# Altium integrated library NSC LDO.IntLib: 1202 symbols (part 1 of 27)
Pins are listed as number, name and electrical type; pins without a type are passive.

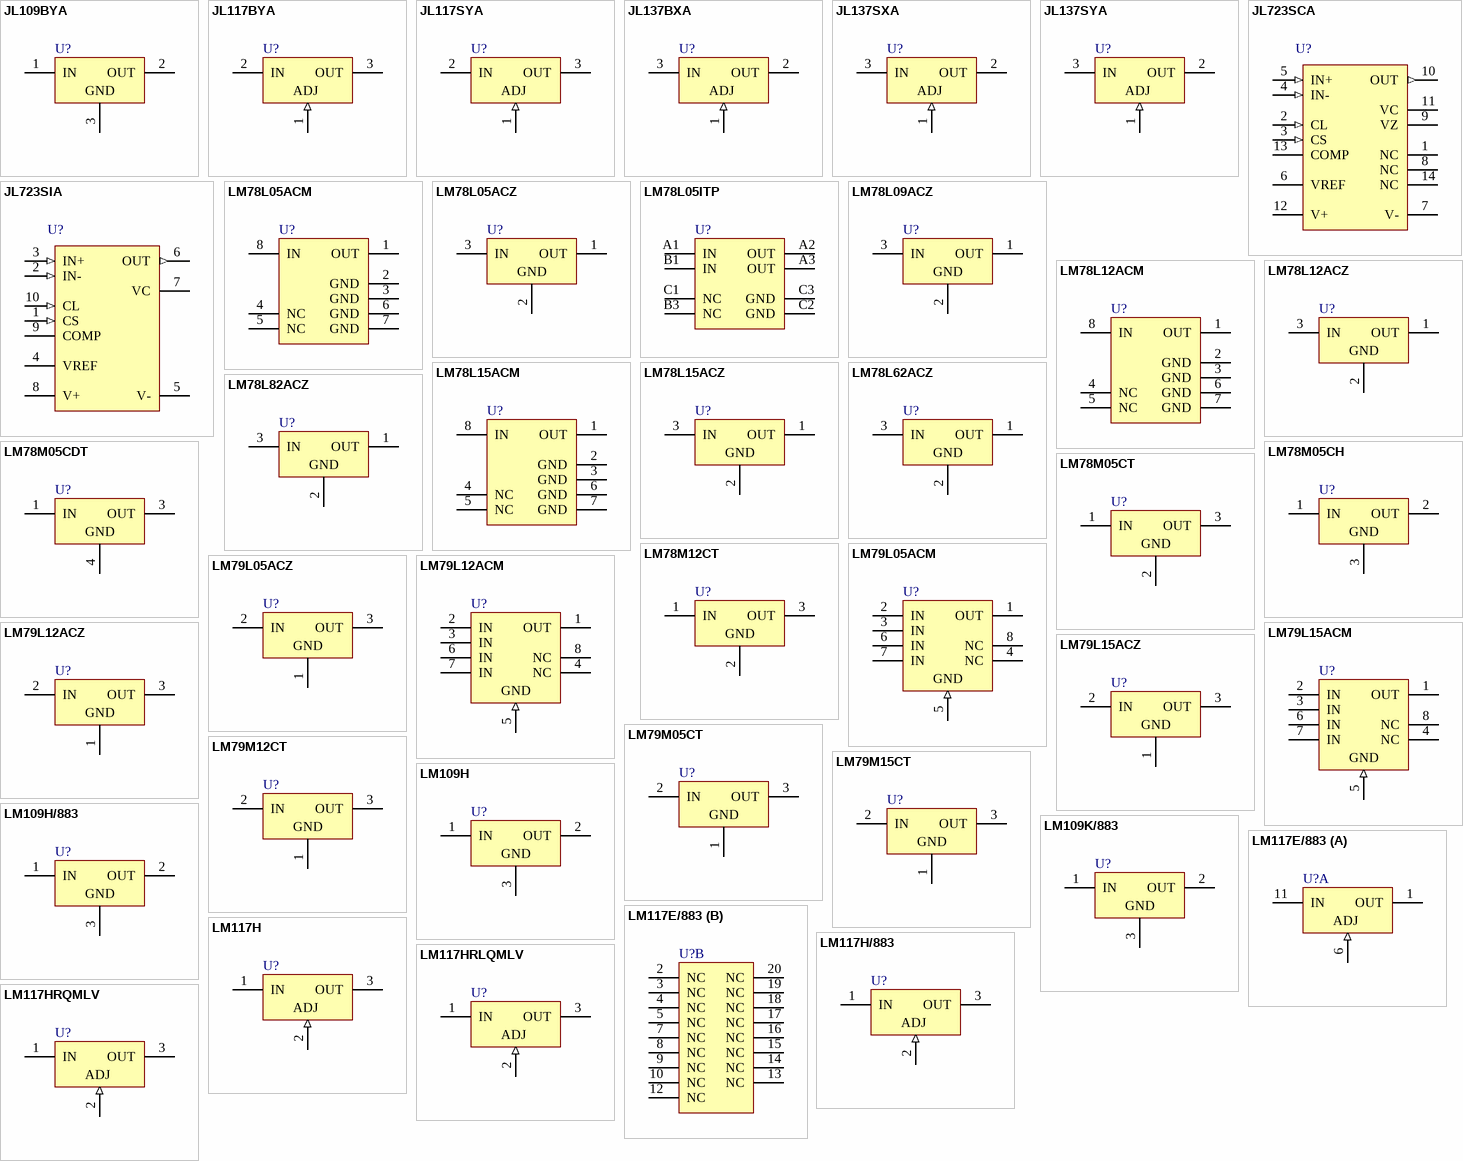
[diagram p0: symbols JL109BYA to LM117HRQMLV]

## JL109BYA
designator U?
5-Volt Regulator; PartNumber: JL109BYA; Manufacturer: National Semiconductor; CompType: LDO IC; PackageTopMarking: NSZSSXXYYA*JM38510/*10701BYA*27014 Q; Published: 4-Dec-2008; DatasheetVersion: Apr-1998; PackageVersion: revE, Sep-1995; PackageReference: K02C; Publisher: Altium Limited; PackageDescription: Metal Can TO-3, 2 Lead, Low Profile; RoHS: N; PinCount: 2; ComponentLink1Description: LM109 Datasheet; ComponentLink1URL: http://www.national.com/ds/LM/LM109.pdf; ComponentLink2Description: LM109 Web Page; ComponentLink2URL: http://www.national.com/pf/LM/LM109.html; ComponentLink3Description: K02C Package Page; ComponentLink3URL: http://www.national.com/packaging/folders/k02c.html
footprint K02C (Oval Flange Mount with (2) Offset Leads; Pin Spacing 10.92 mm; Lead Dia. 1.09 mm (max))
pins: 1 IN (power), 2 OUT (power), 3 GND (power)

## JL117BYA
designator U?
3-Terminal Adjustable Regulator; PartNumber: JL117BYA; Manufacturer: National Semiconductor; CompType: LDO IC; PackageTopMarking: NSZSSXXYYA*JM38510/*11704BYA*27014 Q; Published: 4-Dec-2008; DatasheetVersion: Apr-2007; PackageVersion: revE, Sep-1995; PackageReference: K02C; Publisher: Altium Limited; PackageDescription: Metal Can TO-3, 2 Lead, Low Profile; RoHS: N; PinCount: 2; ComponentLink1Description: LM117 Datasheet; ComponentLink1URL: http://www.national.com/ds/LM/LM117.pdf; ComponentLink2Description: LM117 Web Page; ComponentLink2URL: http://www.national.com/pf/LM/LM117.html; ComponentLink3Description: K02C Package Page; ComponentLink3URL: http://www.national.com/packaging/folders/k02c.html
footprint K02C (Oval Flange Mount with (2) Offset Leads; Pin Spacing 10.92 mm; Lead Dia. 1.09 mm (max))
pins: 1 ADJ (in), 2 IN (power), 3 OUT (power)

## JL117SYA
designator U?
3-Terminal Adjustable Regulator; PartNumber: JL117SYA; Manufacturer: National Semiconductor; CompType: LDO IC; PackageTopMarking: NSZSSXXYYA*JM38510/*11704SYA*27014 Q; Published: 4-Dec-2008; DatasheetVersion: Apr-2007; PackageVersion: revE, Sep-1995; PackageReference: K02C; Publisher: Altium Limited; PackageDescription: Metal Can TO-3, 2 Lead, Low Profile; RoHS: N; PinCount: 2; ComponentLink1Description: LM117 Datasheet; ComponentLink1URL: http://www.national.com/ds/LM/LM117.pdf; ComponentLink2Description: LM117 Web Page; ComponentLink2URL: http://www.national.com/pf/LM/LM117.html; ComponentLink3Description: K02C Package Page; ComponentLink3URL: http://www.national.com/packaging/folders/k02c.html
footprint K02C (Oval Flange Mount with (2) Offset Leads; Pin Spacing 10.92 mm; Lead Dia. 1.09 mm (max))
pins: 1 ADJ (in), 2 IN (power), 3 OUT (power)

## JL137BXA
designator U?
3-Terminal Adjustable Negative Regulator; PartNumber: JL137BXA; Manufacturer: National Semiconductor; CompType: LDO IC; PackageTopMarking: NS ZSSXXYYA 27014 Q*JM38510/11803BXA; Published: 4-Dec-2008; DatasheetVersion: Nov-2004; PackageVersion: revD, Feb-1995; PackageReference: H03A; Publisher: Altium Limited; PackageDescription: Metal Can, TO-39, 3 Lead, .200in Dia, P.C.; RoHS: N; PinCount: 3; Code_JEDEC: TO-39; ComponentLink1Description: LM137 Datasheet; ComponentLink1URL: http://www.national.com/ds/LM/LM137.pdf; ComponentLink2Description: LM137 Web Page; ComponentLink2URL: http://www.national.com/pf/LM/LM137.html; ComponentLink3Description: H03A Package Page; ComponentLink3URL: http://www.national.com/packaging/folders/h03a.html
footprint H03A (Can; 3 Leads; Pin Circle Dia. 5.08 mm; Lead Dia. 0.48 mm (max))
pins: 1 ADJ (in), 2 OUT (power), 3 IN (power)

## JL137SXA
designator U?
3-Terminal Adjustable Negative Regulator; PartNumber: JL137SXA; Manufacturer: National Semiconductor; CompType: LDO IC; PackageTopMarking: NS ZSSXXYYA*JM38510/11803SXA; Published: 4-Dec-2008; DatasheetVersion: Nov-2004; PackageVersion: revD, Feb-1995; PackageReference: H03A; Publisher: Altium Limited; PackageDescription: Metal Can, TO-39, 3 Lead, .200in Dia, P.C.; RoHS: N; PinCount: 3; Code_JEDEC: TO-39; ComponentLink1Description: LM137 Datasheet; ComponentLink1URL: http://www.national.com/ds/LM/LM137.pdf; ComponentLink2Description: LM137 Web Page; ComponentLink2URL: http://www.national.com/pf/LM/LM137.html; ComponentLink3Description: H03A Package Page; ComponentLink3URL: http://www.national.com/packaging/folders/h03a.html
footprint H03A (Can; 3 Leads; Pin Circle Dia. 5.08 mm; Lead Dia. 0.48 mm (max))
pins: 1 ADJ (in), 2 OUT (power), 3 IN (power)

## JL137SYA
designator U?
3-Terminal Adjustable Negative Regulator; PartNumber: JL137SYA; Manufacturer: National Semiconductor; CompType: LDO IC; PackageTopMarking: NSZSSXXYYA*JM38510/*11804SYA*27014 Q; Published: 4-Dec-2008; DatasheetVersion: Nov-2004; PackageVersion: revE, Sep-1995; PackageReference: K02C; Publisher: Altium Limited; PackageDescription: Metal Can TO-3, 2 Lead, Low Profile; RoHS: N; PinCount: 2; ComponentLink1Description: LM137 Datasheet; ComponentLink1URL: http://www.national.com/ds/LM/LM137.pdf; ComponentLink2Description: LM137 Web Page; ComponentLink2URL: http://www.national.com/pf/LM/LM137.html; ComponentLink3Description: K02C Package Page; ComponentLink3URL: http://www.national.com/packaging/folders/k02c.html
footprint K02C (Oval Flange Mount with (2) Offset Leads; Pin Spacing 10.92 mm; Lead Dia. 1.09 mm (max))
pins: 1 ADJ (in), 2 OUT (power), 3 IN (power)

## JL723SCA
designator U?
Voltage Regulator; PartNumber: JL723SCA; Manufacturer: National Semiconductor; CompType: LDO IC; PackageTopMarking: NS ZSSXXYYA*JM38510/10201SCA*27014 Q; MilaeroCode: DXX; Published: 4-Dec-2008; DatasheetVersion: Jun-1999; PackageVersion: revJ, Jul-2002; PackageReference: J14A; Publisher: Altium Limited; PackageDescription: Cerdip, .400 x .310in Body, 14 Lead, .300in Centers, .100in Pitch; RoHS: N; PinCount: 14; ComponentLink1Description: LM723 Datasheet; ComponentLink1URL: http://www.national.com/ds/LM/LM723.pdf; ComponentLink2Description: LM723 Web Page; ComponentLink2URL: http://www.national.com/pf/LM/LM723.html; ComponentLink3Description: J14A Package Page; ComponentLink3URL: http://www.national.com/packaging/folders/j14a.html
footprint J14A (DIP, 14-Leads, Row Spacing 7.62mm, Pitch 2.54mm, Body 19.56x6.73mm)
pins: 1 NC, 2 CL (in), 3 CS (in), 4 IN- (in), 5 IN+ (in), 6 VREF (power), 7 V- (power), 8 NC, 9 VZ (power), 10 OUT (out), 11 VC (power), 12 V+ (power), 13 COMP, 14 NC

## JL723SIA
designator U?
Voltage Regulator; PartNumber: JL723SIA; Manufacturer: National Semiconductor; CompType: LDO IC; PackageTopMarking: NS ZSSXXYYA*JM38510/10201SIA; MilaeroCode: DXX; Published: 4-Dec-2008; DatasheetVersion: Jun-1999; PackageVersion: revG, Nov-2008; PackageReference: H10C; Publisher: Altium Limited; PackageDescription: Metal Can, TO-100, 10 Lead, .230in Dia, P.C.; RoHS: N; PinCount: 10; ComponentLink1Description: LM723 Datasheet; ComponentLink1URL: http://www.national.com/ds/LM/LM723.pdf; ComponentLink2Description: LM723 Web Page; ComponentLink2URL: http://www.national.com/pf/LM/LM723.html; ComponentLink3Description: H10C Package Page; ComponentLink3URL: http://www.national.com/packaging/folders/h10c.html
footprint H10C (Can; 10 Leads; Pin Circle Dia. 5.84 mm; Lead Dia. 0.48 mm (max))
pins: 1 CS (in), 2 IN- (in), 3 IN+ (in), 4 VREF (power), 5 V- (power), 6 OUT (out), 7 VC (power), 8 V+ (power), 9 COMP, 10 CL (in)

## LM78L05ACM
designator U?
3-Terminal Positive Regulators; PartNumber: LM78L05ACM; Manufacturer: National Semiconductor; CompType: LDO IC; PackageTopMarking: NSZXTT*LM78L*05ACM; Published: 4-Dec-2008; DatasheetVersion: Apr-2006; PackageVersion: revL, Sep-2006; PackageReference: M08A; Publisher: Altium Limited; PackageDescription: SOIC Narrow, 4.9 x 3.9 x 1.45mm, 8 Lead, 1.27mm Pitch; RoHS: O; PinCount: 8; DigiKeyPartNumber: LM78L05ACM-ND; Code_JEDEC: MS-012-AA; Code_IPC: SOIC127P600-8; ComponentLink1Description: LM78L05 Datasheet; ComponentLink1URL: http://www.national.com/ds/LM/LM78L05.pdf; ComponentLink2Description: LM78L05 Web Page; ComponentLink2URL: http://www.national.com/pf/LM/LM78L05.html; ComponentLink3Description: M08A Package Page; ComponentLink3URL: http://www.national.com/packaging/folders/m08a.html
footprint M08A_N (SOIC, 8-Leads, Body 4.9x3.9mm, Pitch 1.27mm, IPC Medium Density)
footprint M08A_L (SOIC, 8-Leads, Body 4.9x3.9mm, Pitch 1.27mm, IPC High Density)
footprint M08A_M (SOIC, 8-Leads, Body 4.9x3.9mm, Pitch 1.27mm, IPC Low Density)
pins: 1 OUT (power), 2 GND (power), 3 GND (power), 4 NC, 5 NC, 6 GND (power), 7 GND (power), 8 IN (power)

## LM78L05ACZ
designator U?
3-Terminal Positive Regulators; PartNumber: LM78L05ACZ; Manufacturer: National Semiconductor; CompType: LDO IC; PackageTopMarking: NSXYTT*LM78L*05ACZ; Published: 4-Dec-2008; DatasheetVersion: Apr-2006; PackageVersion: revG, Sep-2000; PackageReference: Z03A; Publisher: Altium Limited; PackageDescription: TO-92, Molded, 3 Lead; RoHS: O; PinCount: 3; DigiKeyPartNumber: LM78L05ACZNS-ND; Code_JEDEC: TO-226-AA; ComponentLink1Description: LM78L05 Datasheet; ComponentLink1URL: http://www.national.com/ds/LM/LM78L05.pdf; ComponentLink2Description: LM78L05 Web Page; ComponentLink2URL: http://www.national.com/pf/LM/LM78L05.html; ComponentLink3Description: Z03A Package Page; ComponentLink3URL: http://www.national.com/packaging/folders/z03a.html
footprint Z03A (TO, Flat Index; 3 In-Line, Axial Leads; Body Dia. 5mm; Leads 0.55 x 0.50 mm (max))
pins: 1 OUT (power), 2 GND (power), 3 IN (power)

## LM78L05ITP
designator U?
3-Terminal Positive Regulators; PartNumber: LM78L05ITP; Manufacturer: National Semiconductor; CompType: LDO IC; PackageTopMarking: XVP*I 03; Published: 4-Dec-2008; DatasheetVersion: Apr-2006; PackageVersion: revA, Mar-2002; PackageReference: TPA08AAA; Publisher: Altium Limited; PackageDescription: Thin Micro SMD, 8 Bump, 0.5mm Pitch; RoHS: Y; PinCount: 8; DigiKeyPartNumber: LM78L05ITPTR-ND; Code_JEDEC: MO-211-BC; ComponentLink1Description: LM78L05 Datasheet; ComponentLink1URL: http://www.national.com/ds/LM/LM78L05.pdf; ComponentLink2Description: LM78L05 Web Page; ComponentLink2URL: http://www.national.com/pf/LM/LM78L05.html; ComponentLink3Description: TPA08AAA Package Page; ComponentLink3URL: http://www.national.com/packaging/folders/tpa08aaa.html
footprint TPA08AAA (Micro SMD, 8-Leads, Body 1.29x1.29mm, Pitch 0.5mm, NSC Recommended)
pins: A1 IN (power), A2 OUT (power), A3 OUT (power), B1 IN (power), B3 NC, C1 NC, C2 GND (power), C3 GND (power)

## LM78L09ACZ
designator U?
3-Terminal Positive Regulators; PartNumber: LM78L09ACZ; Manufacturer: National Semiconductor; CompType: LDO IC; PackageTopMarking: NSXYTT*LM78L*09ACZ; Published: 4-Dec-2008; DatasheetVersion: Apr-2006; PackageVersion: revG, Sep-2000; PackageReference: Z03A; Publisher: Altium Limited; PackageDescription: TO-92, Molded, 3 Lead; RoHS: O; PinCount: 3; DigiKeyPartNumber: LM78L09ACZ-ND; Code_JEDEC: TO-226-AA; ComponentLink1Description: LM78L09 Datasheet; ComponentLink1URL: http://www.national.com/ds/LM/LM78L09.pdf; ComponentLink2Description: LM78L09 Web Page; ComponentLink2URL: http://www.national.com/pf/LM/LM78L09.html; ComponentLink3Description: Z03A Package Page; ComponentLink3URL: http://www.national.com/packaging/folders/z03a.html
footprint Z03A (TO, Flat Index; 3 In-Line, Axial Leads; Body Dia. 5mm; Leads 0.55 x 0.50 mm (max))
pins: 1 OUT (power), 2 GND (power), 3 IN (power)

## LM78L12ACM
designator U?
3-Terminal Positive Regulators; PartNumber: LM78L12ACM; Manufacturer: National Semiconductor; CompType: LDO IC; PackageTopMarking: NSZXTT*LM78L*12ACM; Published: 4-Dec-2008; DatasheetVersion: Apr-2006; PackageVersion: revL, Sep-2006; PackageReference: M08A; Publisher: Altium Limited; PackageDescription: SOIC Narrow, 4.9 x 3.9 x 1.45mm, 8 Lead, 1.27mm Pitch; RoHS: O; PinCount: 8; DigiKeyPartNumber: LM78L12ACM-ND; Code_JEDEC: MS-012-AA; Code_IPC: SOIC127P600-8; ComponentLink1Description: LM78L12 Datasheet; ComponentLink1URL: http://www.national.com/ds/LM/LM78L12.pdf; ComponentLink2Description: LM78L12 Web Page; ComponentLink2URL: http://www.national.com/pf/LM/LM78L12.html; ComponentLink3Description: M08A Package Page; ComponentLink3URL: http://www.national.com/packaging/folders/m08a.html
footprint M08A_N (SOIC, 8-Leads, Body 4.9x3.9mm, Pitch 1.27mm, IPC Medium Density)
footprint M08A_L (SOIC, 8-Leads, Body 4.9x3.9mm, Pitch 1.27mm, IPC High Density)
footprint M08A_M (SOIC, 8-Leads, Body 4.9x3.9mm, Pitch 1.27mm, IPC Low Density)
pins: 1 OUT (power), 2 GND (power), 3 GND (power), 4 NC, 5 NC, 6 GND (power), 7 GND (power), 8 IN (power)

## LM78L12ACZ
designator U?
3-Terminal Positive Regulators; PartNumber: LM78L12ACZ; Manufacturer: National Semiconductor; CompType: LDO IC; PackageTopMarking: NSXYTT*LM78L*12ACZ; Published: 4-Dec-2008; DatasheetVersion: Apr-2006; PackageVersion: revG, Sep-2000; PackageReference: Z03A; Publisher: Altium Limited; PackageDescription: TO-92, Molded, 3 Lead; RoHS: O; PinCount: 3; DigiKeyPartNumber: LM78L12ACZ-ND; Code_JEDEC: TO-226-AA; ComponentLink1Description: LM78L12 Datasheet; ComponentLink1URL: http://www.national.com/ds/LM/LM78L12.pdf; ComponentLink2Description: LM78L12 Web Page; ComponentLink2URL: http://www.national.com/pf/LM/LM78L12.html; ComponentLink3Description: Z03A Package Page; ComponentLink3URL: http://www.national.com/packaging/folders/z03a.html
footprint Z03A (TO, Flat Index; 3 In-Line, Axial Leads; Body Dia. 5mm; Leads 0.55 x 0.50 mm (max))
pins: 1 OUT (power), 2 GND (power), 3 IN (power)

## LM78L15ACM
designator U?
3-Terminal Positive Regulators; PartNumber: LM78L15ACM; Manufacturer: National Semiconductor; CompType: LDO IC; PackageTopMarking: NSZXTT*LM78L*15ACM; Published: 4-Dec-2008; DatasheetVersion: Apr-2006; PackageVersion: revL, Sep-2006; PackageReference: M08A; Publisher: Altium Limited; PackageDescription: SOIC Narrow, 4.9 x 3.9 x 1.45mm, 8 Lead, 1.27mm Pitch; RoHS: O; PinCount: 8; DigiKeyPartNumber: LM78L15ACM-ND; Code_JEDEC: MS-012-AA; Code_IPC: SOIC127P600-8; ComponentLink1Description: LM78L15 Datasheet; ComponentLink1URL: http://www.national.com/ds/LM/LM78L15.pdf; ComponentLink2Description: LM78L15 Web Page; ComponentLink2URL: http://www.national.com/pf/LM/LM78L15.html; ComponentLink3Description: M08A Package Page; ComponentLink3URL: http://www.national.com/packaging/folders/m08a.html
footprint M08A_N (SOIC, 8-Leads, Body 4.9x3.9mm, Pitch 1.27mm, IPC Medium Density)
footprint M08A_L (SOIC, 8-Leads, Body 4.9x3.9mm, Pitch 1.27mm, IPC High Density)
footprint M08A_M (SOIC, 8-Leads, Body 4.9x3.9mm, Pitch 1.27mm, IPC Low Density)
pins: 1 OUT (power), 2 GND (power), 3 GND (power), 4 NC, 5 NC, 6 GND (power), 7 GND (power), 8 IN (power)

## LM78L15ACZ
designator U?
3-Terminal Positive Regulators; PartNumber: LM78L15ACZ; Manufacturer: National Semiconductor; CompType: LDO IC; PackageTopMarking: NSXYTT*LM78L*15ACZ; Published: 4-Dec-2008; DatasheetVersion: Apr-2006; PackageVersion: revG, Sep-2000; PackageReference: Z03A; Publisher: Altium Limited; PackageDescription: TO-92, Molded, 3 Lead; RoHS: O; PinCount: 3; DigiKeyPartNumber: LM78L15ACZ-ND; Code_JEDEC: TO-226-AA; ComponentLink1Description: LM78L15 Datasheet; ComponentLink1URL: http://www.national.com/ds/LM/LM78L15.pdf; ComponentLink2Description: LM78L15 Web Page; ComponentLink2URL: http://www.national.com/pf/LM/LM78L15.html; ComponentLink3Description: Z03A Package Page; ComponentLink3URL: http://www.national.com/packaging/folders/z03a.html
footprint Z03A (TO, Flat Index; 3 In-Line, Axial Leads; Body Dia. 5mm; Leads 0.55 x 0.50 mm (max))
pins: 1 OUT (power), 2 GND (power), 3 IN (power)

## LM78L62ACZ
designator U?
3-Terminal Positive Regulators; PartNumber: LM78L62ACZ; Manufacturer: National Semiconductor; CompType: LDO IC; PackageTopMarking: NSXYTT*LM78L*62ACZ; Published: 4-Dec-2008; DatasheetVersion: Apr-2006; PackageVersion: revG, Sep-2000; PackageReference: Z03A; Publisher: Altium Limited; PackageDescription: TO-92, Molded, 3 Lead; RoHS: O; PinCount: 3; DigiKeyPartNumber: LM78L62ACZ-ND; Code_JEDEC: TO-226-AA; ComponentLink1Description: LM78L62 Datasheet; ComponentLink1URL: http://www.national.com/ds/LM/LM78L62.pdf; ComponentLink2Description: LM78L62 Web Page; ComponentLink2URL: http://www.national.com/pf/LM/LM78L62.html; ComponentLink3Description: Z03A Package Page; ComponentLink3URL: http://www.national.com/packaging/folders/z03a.html
footprint Z03A (TO, Flat Index; 3 In-Line, Axial Leads; Body Dia. 5mm; Leads 0.55 x 0.50 mm (max))
pins: 1 OUT (power), 2 GND (power), 3 IN (power)

## LM78L82ACZ
designator U?
3-Terminal Positive Regulators; PartNumber: LM78L82ACZ; Manufacturer: National Semiconductor; CompType: LDO IC; PackageTopMarking: NSXYTT*LM78L*82ACZ; Published: 4-Dec-2008; DatasheetVersion: Apr-2006; PackageVersion: revG, Sep-2000; PackageReference: Z03A; Publisher: Altium Limited; PackageDescription: TO-92, Molded, 3 Lead; RoHS: O; PinCount: 3; DigiKeyPartNumber: LM78L82ACZ-ND; Code_JEDEC: TO-226-AA; ComponentLink1Description: LM78L82 Datasheet; ComponentLink1URL: http://www.national.com/ds/LM/LM78L82.pdf; ComponentLink2Description: LM78L82 Web Page; ComponentLink2URL: http://www.national.com/pf/LM/LM78L82.html; ComponentLink3Description: Z03A Package Page; ComponentLink3URL: http://www.national.com/packaging/folders/z03a.html
footprint Z03A (TO, Flat Index; 3 In-Line, Axial Leads; Body Dia. 5mm; Leads 0.55 x 0.50 mm (max))
pins: 1 OUT (power), 2 GND (power), 3 IN (power)

## LM78M05CDT
designator U?
3-Terminal Positive Voltage Regulators; PartNumber: LM78M05CDT; Manufacturer: National Semiconductor; CompType: LDO IC; PackageTopMarking: NSUZXYTT*LM78M05*CDT; Published: 4-Dec-2008; DatasheetVersion: Aug-2005; PackageVersion: revC, Apr-2003; PackageReference: TD03B; Publisher: Altium Limited; PackageDescription: TO252, Molded, Jedec, 6.8 x 6.10 x 2.30mm Body, 3 Lead, 2.28mm Pitch, Surface Mount; RoHS: O; PinCount: 3; DigiKeyPartNumber: LM78M05CDT-ND; Code_JEDEC: TO-252-AA; ComponentLink1Description: LM78M05 Datasheet; ComponentLink1URL: http://www.national.com/ds/LM/LM78M05.pdf; ComponentLink2Description: LM78M05 Web Page; ComponentLink2URL: http://www.national.com/pf/LM/LM78M05.html; ComponentLink3Description: TD03B Package Page; ComponentLink3URL: http://www.national.com/packaging/folders/td03b.html
footprint TD03B_N (D-PAK, 4-Leads, Body 6.1x6.6mm, Pitch 2.29mm, Lead Span 9.7mm, IPC Medium Density)
footprint TD03B_L (D-PAK, 4-Leads, Body 6.1x6.6mm, Pitch 2.29mm, Lead Span 9.7mm, IPC High Density)
footprint TD03B_M (D-PAK, 4-Leads, Body 6.1x6.6mm, Pitch 2.29mm, Lead Span 9.7mm, IPC Low Density)
pins: 1 IN (power), 3 OUT (power), 4 GND (power)

## LM78M05CH
designator U?
3-Terminal Positive Voltage Regulators; PartNumber: LM78M05CH; Manufacturer: National Semiconductor; CompType: LDO IC; PackageTopMarking: NSZXYTTE# LM78M05CH; Published: 4-Dec-2008; DatasheetVersion: Aug-2005; PackageVersion: revD, Feb-1995; PackageReference: H03A; Publisher: Altium Limited; PackageDescription: Metal Can, TO-39, 3 Lead, .200in Dia, P.C.; RoHS: O; PinCount: 3; Code_JEDEC: TO-39; ComponentLink1Description: LM78M05 Datasheet; ComponentLink1URL: http://www.national.com/ds/LM/LM78M05.pdf; ComponentLink2Description: LM78M05 Web Page; ComponentLink2URL: http://www.national.com/pf/LM/LM78M05.html; ComponentLink3Description: H03A Package Page; ComponentLink3URL: http://www.national.com/packaging/folders/h03a.html
footprint H03A (Can; 3 Leads; Pin Circle Dia. 5.08 mm; Lead Dia. 0.48 mm (max))
pins: 1 IN (power), 2 OUT (power), 3 GND (power)

## LM78M05CT
designator U?
3-Terminal Positive Voltage Regulators; PartNumber: LM78M05CT; Manufacturer: National Semiconductor; CompType: LDO IC; PackageTopMarking: NSUZXYTTE#*LM341T-5.0*LM78M05CT; Published: 4-Dec-2008; DatasheetVersion: Aug-2005; PackageVersion: revL, Jan-1992; PackageReference: T03B; Publisher: Altium Limited; PackageDescription: TO-220, Molded, 3 Lead, Straight; RoHS: O; PinCount: 3; DigiKeyPartNumber: LM78M05CT-ND; ComponentLink1Description: LM78M05 Datasheet; ComponentLink1URL: http://www.national.com/ds/LM/LM78M05.pdf; ComponentLink2Description: LM78M05 Web Page; ComponentLink2URL: http://www.national.com/pf/LM/LM78M05.html; ComponentLink3Description: T03B Package Page; ComponentLink3URL: http://www.national.com/packaging/folders/t03b.html
footprint T03B (TO, Thru-Hole, Vertical, Heatsink Mounted; 3 In-Line Leads; Pitch 2.54 mm)
pins: 1 IN (power), 2 GND (power), 3 OUT (power)

## LM78M12CT
designator U?
3-Terminal Positive Voltage Regulators; PartNumber: LM78M12CT; Manufacturer: National Semiconductor; CompType: LDO IC; PackageTopMarking: NSUZXYTTE#*LM341T-12*LM78M12CT; Published: 4-Dec-2008; DatasheetVersion: Aug-2005; PackageVersion: revL, Jan-1992; PackageReference: T03B; Publisher: Altium Limited; PackageDescription: TO-220, Molded, 3 Lead, Straight; RoHS: O; PinCount: 3; DigiKeyPartNumber: LM78M12CT-ND; ComponentLink1Description: LM78M12 Datasheet; ComponentLink1URL: http://www.national.com/ds/LM/LM78M12.pdf; ComponentLink2Description: LM78M12 Web Page; ComponentLink2URL: http://www.national.com/pf/LM/LM78M12.html; ComponentLink3Description: T03B Package Page; ComponentLink3URL: http://www.national.com/packaging/folders/t03b.html
footprint T03B (TO, Thru-Hole, Vertical, Heatsink Mounted; 3 In-Line Leads; Pitch 2.54 mm)
pins: 1 IN (power), 2 GND (power), 3 OUT (power)

## LM79L05ACM
designator U?
Series 3-Terminal Negative Regulators; PartNumber: LM79L05ACM; Manufacturer: National Semiconductor; CompType: LDO IC; PackageTopMarking: NSZXTT*LM79L*05ACM; Published: 4-Dec-2008; DatasheetVersion: Mar-2006; PackageVersion: revL, Sep-2006; PackageReference: M08A; Publisher: Altium Limited; PackageDescription: SOIC Narrow, 4.9 x 3.9 x 1.45mm, 8 Lead, 1.27mm Pitch; RoHS: O; PinCount: 8; DigiKeyPartNumber: LM79L05ACM-ND; Code_JEDEC: MS-012-AA; Code_IPC: SOIC127P600-8; ComponentLink1Description: LM79L05 Datasheet; ComponentLink1URL: http://www.national.com/ds/LM/LM79L05.pdf; ComponentLink2Description: LM79L05 Web Page; ComponentLink2URL: http://www.national.com/pf/LM/LM79L05.html; ComponentLink3Description: M08A Package Page; ComponentLink3URL: http://www.national.com/packaging/folders/m08a.html
footprint M08A_N (SOIC, 8-Leads, Body 4.9x3.9mm, Pitch 1.27mm, IPC Medium Density)
footprint M08A_L (SOIC, 8-Leads, Body 4.9x3.9mm, Pitch 1.27mm, IPC High Density)
footprint M08A_M (SOIC, 8-Leads, Body 4.9x3.9mm, Pitch 1.27mm, IPC Low Density)
pins: 1 OUT (power), 2 IN (power), 3 IN (power), 4 NC, 5 GND (in), 6 IN (power), 7 IN (power), 8 NC

## LM79L05ACZ
designator U?
Series 3-Terminal Negative Regulators; PartNumber: LM79L05ACZ; Manufacturer: National Semiconductor; CompType: LDO IC; PackageTopMarking: NSXYTT*320L*79L05; Published: 4-Dec-2008; DatasheetVersion: Mar-2006; PackageVersion: revG, Sep-2000; PackageReference: Z03A; Publisher: Altium Limited; PackageDescription: TO-92, Molded, 3 Lead; RoHS: O; PinCount: 3; DigiKeyPartNumber: LM79L05ACZ-ND; Code_JEDEC: TO-226-AA; ComponentLink1Description: LM79L05 Datasheet; ComponentLink1URL: http://www.national.com/ds/LM/LM79L05.pdf; ComponentLink2Description: LM79L05 Web Page; ComponentLink2URL: http://www.national.com/pf/LM/LM79L05.html; ComponentLink3Description: Z03A Package Page; ComponentLink3URL: http://www.national.com/packaging/folders/z03a.html
footprint Z03A (TO, Flat Index; 3 In-Line, Axial Leads; Body Dia. 5mm; Leads 0.55 x 0.50 mm (max))
pins: 1 GND (power), 2 IN (power), 3 OUT (power)

## LM79L12ACM
designator U?
Series 3-Terminal Negative Regulators; PartNumber: LM79L12ACM; Manufacturer: National Semiconductor; CompType: LDO IC; PackageTopMarking: NSZXTT*LM79L*12ACM; Published: 4-Dec-2008; DatasheetVersion: Mar-2006; PackageVersion: revL, Sep-2006; PackageReference: M08A; Publisher: Altium Limited; PackageDescription: SOIC Narrow, 4.9 x 3.9 x 1.45mm, 8 Lead, 1.27mm Pitch; RoHS: O; PinCount: 8; DigiKeyPartNumber: LM79L12ACM-ND; Code_JEDEC: MS-012-AA; Code_IPC: SOIC127P600-8; ComponentLink1Description: LM79L12 Datasheet; ComponentLink1URL: http://www.national.com/ds/LM/LM79L12.pdf; ComponentLink2Description: LM79L12 Web Page; ComponentLink2URL: http://www.national.com/pf/LM/LM79L12.html; ComponentLink3Description: M08A Package Page; ComponentLink3URL: http://www.national.com/packaging/folders/m08a.html
footprint M08A_N (SOIC, 8-Leads, Body 4.9x3.9mm, Pitch 1.27mm, IPC Medium Density)
footprint M08A_L (SOIC, 8-Leads, Body 4.9x3.9mm, Pitch 1.27mm, IPC High Density)
footprint M08A_M (SOIC, 8-Leads, Body 4.9x3.9mm, Pitch 1.27mm, IPC Low Density)
pins: 1 OUT (power), 2 IN (power), 3 IN (power), 4 NC, 5 GND (in), 6 IN (power), 7 IN (power), 8 NC

## LM79L12ACZ
designator U?
Series 3-Terminal Negative Regulators; PartNumber: LM79L12ACZ; Manufacturer: National Semiconductor; CompType: LDO IC; PackageTopMarking: NSXYTT*320L*79L12; Published: 4-Dec-2008; DatasheetVersion: Mar-2006; PackageVersion: revG, Sep-2000; PackageReference: Z03A; Publisher: Altium Limited; PackageDescription: TO-92, Molded, 3 Lead; RoHS: O; PinCount: 3; DigiKeyPartNumber: LM320LZ-12-ND; Code_JEDEC: TO-226-AA; ComponentLink1Description: LM79L12 Datasheet; ComponentLink1URL: http://www.national.com/ds/LM/LM79L12.pdf; ComponentLink2Description: LM79L12 Web Page; ComponentLink2URL: http://www.national.com/pf/LM/LM79L12.html; ComponentLink3Description: Z03A Package Page; ComponentLink3URL: http://www.national.com/packaging/folders/z03a.html
footprint Z03A (TO, Flat Index; 3 In-Line, Axial Leads; Body Dia. 5mm; Leads 0.55 x 0.50 mm (max))
pins: 1 GND (power), 2 IN (power), 3 OUT (power)

## LM79L15ACM
designator U?
Series 3-Terminal Negative Regulators; PartNumber: LM79L15ACM; Manufacturer: National Semiconductor; CompType: LDO IC; PackageTopMarking: NSZXTT*LM79L*15ACM; Published: 4-Dec-2008; DatasheetVersion: Mar-2006; PackageVersion: revL, Sep-2006; PackageReference: M08A; Publisher: Altium Limited; PackageDescription: SOIC Narrow, 4.9 x 3.9 x 1.45mm, 8 Lead, 1.27mm Pitch; RoHS: O; PinCount: 8; DigiKeyPartNumber: LM79L15ACM-ND; Code_JEDEC: MS-012-AA; Code_IPC: SOIC127P600-8; ComponentLink1Description: LM79L15 Datasheet; ComponentLink1URL: http://www.national.com/ds/LM/LM79L15.pdf; ComponentLink2Description: LM79L15 Web Page; ComponentLink2URL: http://www.national.com/pf/LM/LM79L15.html; ComponentLink3Description: M08A Package Page; ComponentLink3URL: http://www.national.com/packaging/folders/m08a.html
footprint M08A_N (SOIC, 8-Leads, Body 4.9x3.9mm, Pitch 1.27mm, IPC Medium Density)
footprint M08A_L (SOIC, 8-Leads, Body 4.9x3.9mm, Pitch 1.27mm, IPC High Density)
footprint M08A_M (SOIC, 8-Leads, Body 4.9x3.9mm, Pitch 1.27mm, IPC Low Density)
pins: 1 OUT (power), 2 IN (power), 3 IN (power), 4 NC, 5 GND (in), 6 IN (power), 7 IN (power), 8 NC

## LM79L15ACZ
designator U?
Series 3-Terminal Negative Regulators; PartNumber: LM79L15ACZ; Manufacturer: National Semiconductor; CompType: LDO IC; PackageTopMarking: NSXYTT*320L*79L15; Published: 4-Dec-2008; DatasheetVersion: Mar-2006; PackageVersion: revG, Sep-2000; PackageReference: Z03A; Publisher: Altium Limited; PackageDescription: TO-92, Molded, 3 Lead; RoHS: O; PinCount: 3; DigiKeyPartNumber: LM79L15ACZ-ND; Code_JEDEC: TO-226-AA; ComponentLink1Description: LM79L15 Datasheet; ComponentLink1URL: http://www.national.com/ds/LM/LM79L15.pdf; ComponentLink2Description: LM79L15 Web Page; ComponentLink2URL: http://www.national.com/pf/LM/LM79L15.html; ComponentLink3Description: Z03A Package Page; ComponentLink3URL: http://www.national.com/packaging/folders/z03a.html
footprint Z03A (TO, Flat Index; 3 In-Line, Axial Leads; Body Dia. 5mm; Leads 0.55 x 0.50 mm (max))
pins: 1 GND (power), 2 IN (power), 3 OUT (power)

## LM79M05CT
designator U?
3-Terminal Negative Regulators; PartNumber: LM79M05CT; Manufacturer: National Semiconductor; CompType: LDO IC; PackageTopMarking: NSUZXYTTE#*LM79M*05CT; Published: 4-Dec-2008; DatasheetVersion: Sep-2001; PackageVersion: revL, Jan-1992; PackageReference: T03B; Publisher: Altium Limited; PackageDescription: TO-220, Molded, 3 Lead, Straight; RoHS: O; PinCount: 3; DigiKeyPartNumber: LM79M05CT-ND; ComponentLink1Description: LM79M05 Datasheet; ComponentLink1URL: http://www.national.com/ds/LM/LM79M05.pdf; ComponentLink2Description: LM79M05 Web Page; ComponentLink2URL: http://www.national.com/pf/LM/LM79M05.html; ComponentLink3Description: T03B Package Page; ComponentLink3URL: http://www.national.com/packaging/folders/t03b.html
footprint T03B (TO, Thru-Hole, Vertical, Heatsink Mounted; 3 In-Line Leads; Pitch 2.54 mm)
pins: 1 GND (power), 2 IN (power), 3 OUT (power)

## LM79M12CT
designator U?
3-Terminal Negative Regulators; PartNumber: LM79M12CT; Manufacturer: National Semiconductor; CompType: LDO IC; PackageTopMarking: NSUZXYTTE#*LM79M*12CT; Published: 4-Dec-2008; DatasheetVersion: Sep-2001; PackageVersion: revL, Jan-1992; PackageReference: T03B; Publisher: Altium Limited; PackageDescription: TO-220, Molded, 3 Lead, Straight; RoHS: O; PinCount: 3; DigiKeyPartNumber: LM79M12CT-ND; ComponentLink1Description: LM79M12 Datasheet; ComponentLink1URL: http://www.national.com/ds/LM/LM79M12.pdf; ComponentLink2Description: LM79M12 Web Page; ComponentLink2URL: http://www.national.com/pf/LM/LM79M12.html; ComponentLink3Description: T03B Package Page; ComponentLink3URL: http://www.national.com/packaging/folders/t03b.html
footprint T03B (TO, Thru-Hole, Vertical, Heatsink Mounted; 3 In-Line Leads; Pitch 2.54 mm)
pins: 1 GND (power), 2 IN (power), 3 OUT (power)

## LM79M15CT
designator U?
3-Terminal Negative Regulators; PartNumber: LM79M15CT; Manufacturer: National Semiconductor; CompType: LDO IC; PackageTopMarking: NSUZXYTTE#*LM79M*15CT; Published: 4-Dec-2008; DatasheetVersion: Sep-2001; PackageVersion: revL, Jan-1992; PackageReference: T03B; Publisher: Altium Limited; PackageDescription: TO-220, Molded, 3 Lead, Straight; RoHS: O; PinCount: 3; DigiKeyPartNumber: LM79M15CT-ND; ComponentLink1Description: LM79M15 Datasheet; ComponentLink1URL: http://www.national.com/ds/LM/LM79M15.pdf; ComponentLink2Description: LM79M15 Web Page; ComponentLink2URL: http://www.national.com/pf/LM/LM79M15.html; ComponentLink3Description: T03B Package Page; ComponentLink3URL: http://www.national.com/packaging/folders/t03b.html
footprint T03B (TO, Thru-Hole, Vertical, Heatsink Mounted; 3 In-Line Leads; Pitch 2.54 mm)
pins: 1 GND (power), 2 IN (power), 3 OUT (power)

## LM109H
designator U?
5-Volt Regulator; PartNumber: LM109H; Manufacturer: National Semiconductor; CompType: LDO IC; PackageTopMarking: NSZXYTTE# LM109HP+; Published: 4-Dec-2008; DatasheetVersion: Apr-1998; PackageVersion: revD, Feb-1995; PackageReference: H03A; Publisher: Altium Limited; PackageDescription: Metal Can, TO-39, 3 Lead, .200in Dia, P.C.; RoHS: O; PinCount: 3; Code_JEDEC: TO-39; ComponentLink1Description: LM109 Datasheet; ComponentLink1URL: http://www.national.com/ds/LM/LM109.pdf; ComponentLink2Description: LM109 Web Page; ComponentLink2URL: http://www.national.com/pf/LM/LM109.html; ComponentLink3Description: H03A Package Page; ComponentLink3URL: http://www.national.com/packaging/folders/h03a.html
footprint H03A (Can; 3 Leads; Pin Circle Dia. 5.08 mm; Lead Dia. 0.48 mm (max))
pins: 1 IN (power), 2 OUT (power), 3 GND (power)

## LM109H/883
designator U?
5-Volt Regulator; PartNumber: LM109H/883; Manufacturer: National Semiconductor; CompType: LDO IC; PackageTopMarking: NS ZSSXXYYA*LM109H/883 Q; Published: 4-Dec-2008; DatasheetVersion: Apr-1998; PackageVersion: revD, Feb-1995; PackageReference: H03A; Publisher: Altium Limited; PackageDescription: Metal Can, TO-39, 3 Lead, .200in Dia, P.C.; RoHS: N; PinCount: 3; Code_JEDEC: TO-39; ComponentLink1Description: LM109 Datasheet; ComponentLink1URL: http://www.national.com/ds/LM/LM109.pdf; ComponentLink2Description: LM109 Web Page; ComponentLink2URL: http://www.national.com/pf/LM/LM109.html; ComponentLink3Description: H03A Package Page; ComponentLink3URL: http://www.national.com/packaging/folders/h03a.html
footprint H03A (Can; 3 Leads; Pin Circle Dia. 5.08 mm; Lead Dia. 0.48 mm (max))
pins: 1 IN (power), 2 OUT (power), 3 GND (power)

## LM109K/883
designator U?
5-Volt Regulator; PartNumber: LM109K/883; Manufacturer: National Semiconductor; CompType: LDO IC; PackageTopMarking: NSZSSXXYYA*LM109K/883* Q; Published: 4-Dec-2008; DatasheetVersion: Apr-1998; PackageVersion: revE, Sep-1995; PackageReference: K02C; Publisher: Altium Limited; PackageDescription: Metal Can TO-3, 2 Lead, Low Profile; RoHS: N; PinCount: 2; ComponentLink1Description: LM109 Datasheet; ComponentLink1URL: http://www.national.com/ds/LM/LM109.pdf; ComponentLink2Description: LM109 Web Page; ComponentLink2URL: http://www.national.com/pf/LM/LM109.html; ComponentLink3Description: K02C Package Page; ComponentLink3URL: http://www.national.com/packaging/folders/k02c.html
footprint K02C (Oval Flange Mount with (2) Offset Leads; Pin Spacing 10.92 mm; Lead Dia. 1.09 mm (max))
pins: 1 IN (power), 2 OUT (power), 3 GND (power)

## LM117E/883
designator U?
3-Terminal Adjustable Regulator; PartNumber: LM117E/883; Manufacturer: National Semiconductor; CompType: LDO IC; PackageTopMarking: NSZSSXXYYA*LM117E*/883 Q; Published: 4-Dec-2008; DatasheetVersion: Apr-2007; PackageVersion: revF, May-2004; PackageReference: E20A; Publisher: Altium Limited; PackageDescription: Leadless Chip Carrier, Type C, 20 Terminal; RoHS: N; PinCount: 20; Code_JEDEC: MS-004-CB; ComponentLink1Description: LM117 Datasheet; ComponentLink1URL: http://www.national.com/ds/LM/LM117.pdf; ComponentLink2Description: LM117 Web Page; ComponentLink2URL: http://www.national.com/pf/LM/LM117.html; ComponentLink3Description: E20A Package Page; ComponentLink3URL: http://www.national.com/packaging/folders/e20a.html
footprint E20A_N (Leadless Chip Carrier, 20-Leads, Body 8.9x8.9mm, Pitch 1.27mm, IPC Medium Density)
footprint E20A_L (Leadless Chip Carrier, 20-Leads, Body 8.9x8.9mm, Pitch 1.27mm, IPC High Density)
footprint E20A_M (Leadless Chip Carrier, 20-Leads, Body 8.9x8.9mm, Pitch 1.27mm, IPC Low Density)
part A pins: 1 OUT (power), 6 ADJ (in), 11 IN (power)
part B pins: 2 NC, 3 NC, 4 NC, 5 NC, 7 NC, 8 NC, 9 NC, 10 NC, 12 NC, 13 NC, 14 NC, 15 NC, 16 NC, 17 NC, 18 NC, 19 NC, 20 NC

## LM117H
designator U?
3-Terminal Adjustable Regulator; PartNumber: LM117H; Manufacturer: National Semiconductor; CompType: LDO IC; PackageTopMarking: NSZXYTTE# LM117HP+; Published: 4-Dec-2008; DatasheetVersion: Apr-2007; PackageVersion: revD, Feb-1995; PackageReference: H03A; Publisher: Altium Limited; PackageDescription: Metal Can, TO-39, 3 Lead, .200in Dia, P.C.; RoHS: O; PinCount: 3; DigiKeyPartNumber: LM117H-ND; Code_JEDEC: TO-39; ComponentLink1Description: LM117 Datasheet; ComponentLink1URL: http://www.national.com/ds/LM/LM117.pdf; ComponentLink2Description: LM117 Web Page; ComponentLink2URL: http://www.national.com/pf/LM/LM117.html; ComponentLink3Description: H03A Package Page; ComponentLink3URL: http://www.national.com/packaging/folders/h03a.html
footprint H03A (Can; 3 Leads; Pin Circle Dia. 5.08 mm; Lead Dia. 0.48 mm (max))
pins: 1 IN (power), 2 ADJ (in), 3 OUT (power)

## LM117H/883
designator U?
3-Terminal Adjustable Regulator; PartNumber: LM117H/883; Manufacturer: National Semiconductor; CompType: LDO IC; PackageTopMarking: NSZSSXXYYA LM117H/883 Q; Published: 4-Dec-2008; DatasheetVersion: Apr-2007; PackageVersion: revD, Feb-1995; PackageReference: H03A; Publisher: Altium Limited; PackageDescription: Metal Can, TO-39, 3 Lead, .200in Dia, P.C.; RoHS: N; PinCount: 3; Code_JEDEC: TO-39; ComponentLink1Description: LM117 Datasheet; ComponentLink1URL: http://www.national.com/ds/LM/LM117.pdf; ComponentLink2Description: LM117 Web Page; ComponentLink2URL: http://www.national.com/pf/LM/LM117.html; ComponentLink3Description: H03A Package Page; ComponentLink3URL: http://www.national.com/packaging/folders/h03a.html
footprint H03A (Can; 3 Leads; Pin Circle Dia. 5.08 mm; Lead Dia. 0.48 mm (max))
pins: 1 IN (power), 2 ADJ (in), 3 OUT (power)

## LM117HRLQMLV
designator U?
3-Terminal Adjustable Regulator; PartNumber: LM117HRLQMLV; Manufacturer: National Semiconductor; CompType: LDO IC; PackageTopMarking: NSZSSXXYYA 5962R99517*05VXA LM117HRLQV Q; Published: 4-Dec-2008; DatasheetVersion: Apr-2007; PackageVersion: revD, Feb-1995; PackageReference: H03A; Publisher: Altium Limited; PackageDescription: Metal Can, TO-39, 3 Lead, .200in Dia, P.C.; RoHS: N; PinCount: 3; Code_JEDEC: TO-39; ComponentLink1Description: LM117 Datasheet; ComponentLink1URL: http://www.national.com/ds/LM/LM117.pdf; ComponentLink2Description: LM117 Web Page; ComponentLink2URL: http://www.national.com/pf/LM/LM117.html; ComponentLink3Description: H03A Package Page; ComponentLink3URL: http://www.national.com/packaging/folders/h03a.html
footprint H03A (Can; 3 Leads; Pin Circle Dia. 5.08 mm; Lead Dia. 0.48 mm (max))
pins: 1 IN (power), 2 ADJ (in), 3 OUT (power)

## LM117HRQMLV
designator U?
3-Terminal Adjustable Regulator; PartNumber: LM117HRQMLV; Manufacturer: National Semiconductor; CompType: LDO IC; PackageTopMarking: NSZSSXXYYA*03VXA LM117HRQV Q; Published: 4-Dec-2008; DatasheetVersion: Apr-2007; PackageVersion: revD, Feb-1995; PackageReference: H03A; Publisher: Altium Limited; PackageDescription: Metal Can, TO-39, 3 Lead, .200in Dia, P.C.; RoHS: N; PinCount: 3; Code_JEDEC: TO-39; ComponentLink1Description: LM117 Datasheet; ComponentLink1URL: http://www.national.com/ds/LM/LM117.pdf; ComponentLink2Description: LM117 Web Page; ComponentLink2URL: http://www.national.com/pf/LM/LM117.html; ComponentLink3Description: H03A Package Page; ComponentLink3URL: http://www.national.com/packaging/folders/h03a.html
footprint H03A (Can; 3 Leads; Pin Circle Dia. 5.08 mm; Lead Dia. 0.48 mm (max))
pins: 1 IN (power), 2 ADJ (in), 3 OUT (power)

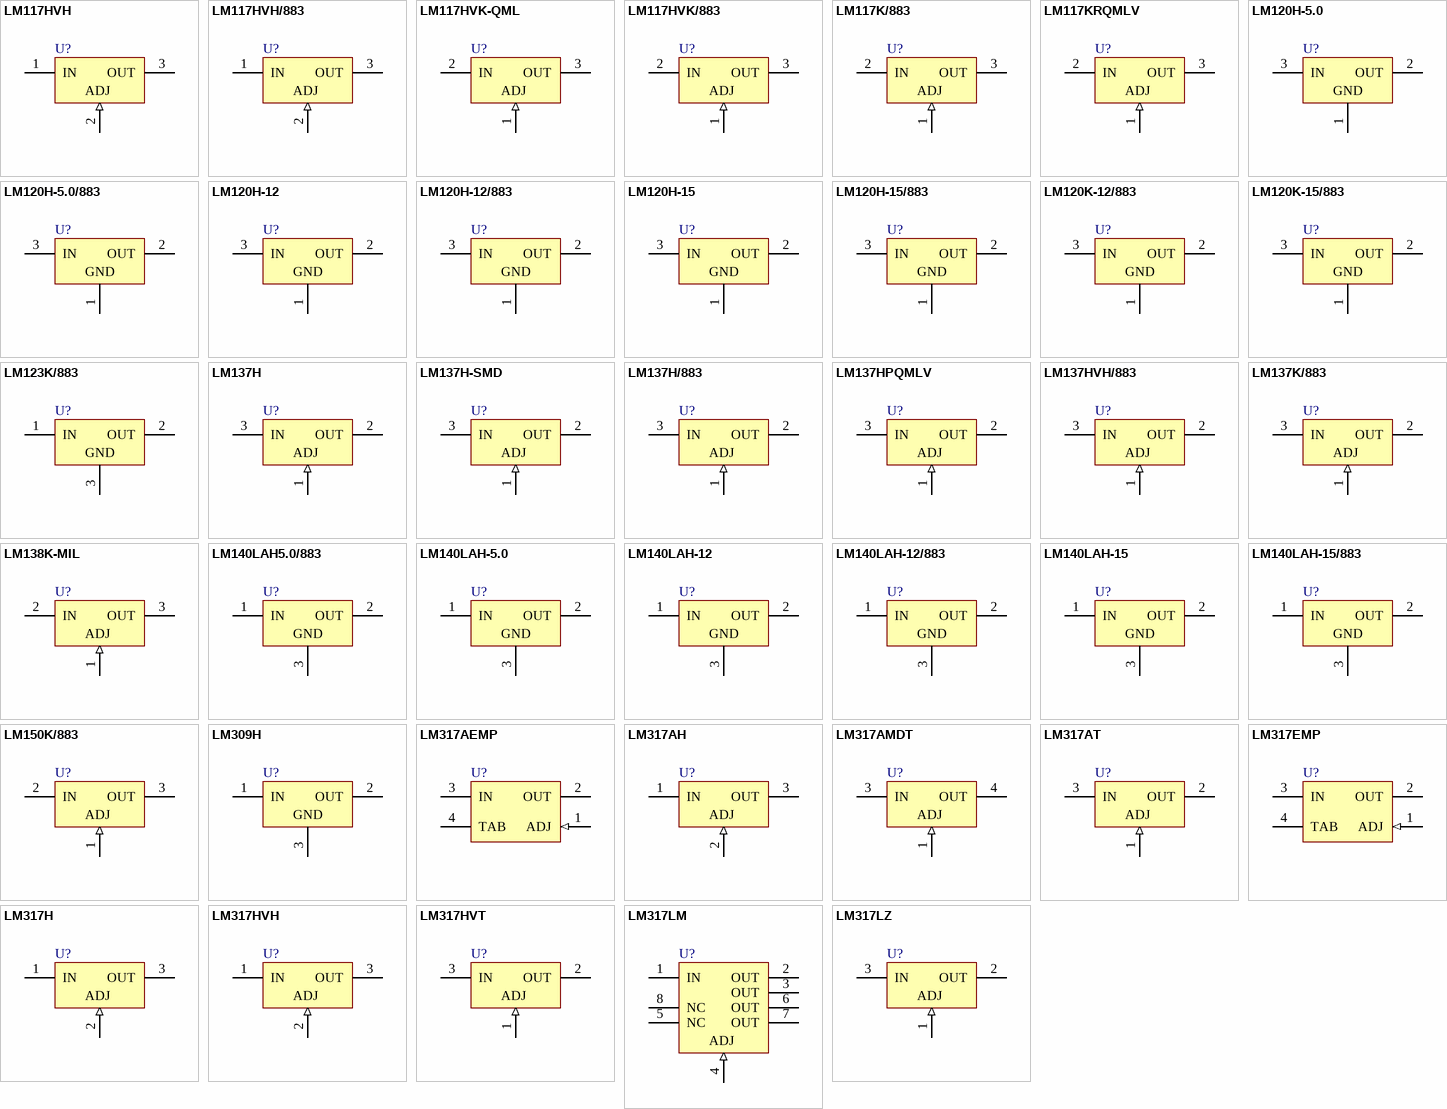
[diagram p1: symbols LM117HVH to LM317LZ]

## LM117HVH
designator U?
3-Terminal Adjustable Regulator; PartNumber: LM117HVH; Manufacturer: National Semiconductor; CompType: LDO IC; PackageTopMarking: NSZXYTTE# LM117HVHP+; Published: 4-Dec-2008; DatasheetVersion: Apr-2000; PackageVersion: revD, Feb-1995; PackageReference: H03A; Publisher: Altium Limited; PackageDescription: Metal Can, TO-39, 3 Lead, .200in Dia, P.C.; RoHS: O; PinCount: 3; Code_JEDEC: TO-39; ComponentLink1Description: LM117HV Datasheet; ComponentLink1URL: http://www.national.com/ds/LM/LM117HV.pdf; ComponentLink2Description: LM117HV Web Page; ComponentLink2URL: http://www.national.com/pf/LM/LM117HV.html; ComponentLink3Description: H03A Package Page; ComponentLink3URL: http://www.national.com/packaging/folders/h03a.html
footprint H03A (Can; 3 Leads; Pin Circle Dia. 5.08 mm; Lead Dia. 0.48 mm (max))
pins: 1 IN (power), 2 ADJ (in), 3 OUT (power)

## LM117HVH/883
designator U?
3-Terminal Adjustable Regulator; PartNumber: LM117HVH/883; Manufacturer: National Semiconductor; CompType: LDO IC; PackageTopMarking: NS ZSSXXYYA*LM117HVH/883 Q; Published: 4-Dec-2008; DatasheetVersion: Apr-2000; PackageVersion: revD, Feb-1995; PackageReference: H03A; Publisher: Altium Limited; PackageDescription: Metal Can, TO-39, 3 Lead, .200in Dia, P.C.; RoHS: N; PinCount: 3; Code_JEDEC: TO-39; ComponentLink1Description: LM117HV Datasheet; ComponentLink1URL: http://www.national.com/ds/LM/LM117HV.pdf; ComponentLink2Description: LM117HV Web Page; ComponentLink2URL: http://www.national.com/pf/LM/LM117HV.html; ComponentLink3Description: H03A Package Page; ComponentLink3URL: http://www.national.com/packaging/folders/h03a.html
footprint H03A (Can; 3 Leads; Pin Circle Dia. 5.08 mm; Lead Dia. 0.48 mm (max))
pins: 1 IN (power), 2 ADJ (in), 3 OUT (power)

## LM117HVK-QML
designator U?
3-Terminal Adjustable Regulator; PartNumber: LM117HVK-QML; Manufacturer: National Semiconductor; CompType: LDO IC; PackageTopMarking: NSZSSXXYYA*-0722903QYA*LM117HVK*-QML Q; Published: 4-Dec-2008; DatasheetVersion: Apr-2000; PackageVersion: revE, Sep-1995; PackageReference: K02C; Publisher: Altium Limited; PackageDescription: Metal Can TO-3, 2 Lead, Low Profile; RoHS: N; PinCount: 2; ComponentLink1Description: LM117HV Datasheet; ComponentLink1URL: http://www.national.com/ds/LM/LM117HV.pdf; ComponentLink2Description: LM117HV Web Page; ComponentLink2URL: http://www.national.com/pf/LM/LM117HV.html; ComponentLink3Description: K02C Package Page; ComponentLink3URL: http://www.national.com/packaging/folders/k02c.html
footprint K02C (Oval Flange Mount with (2) Offset Leads; Pin Spacing 10.92 mm; Lead Dia. 1.09 mm (max))
pins: 1 ADJ (in), 2 IN (power), 3 OUT (power)

## LM117HVK/883
designator U?
3-Terminal Adjustable Regulator; PartNumber: LM117HVK/883; Manufacturer: National Semiconductor; CompType: LDO IC; Published: 4-Dec-2008; DatasheetVersion: Apr-2000; PackageVersion: revE, Sep-1995; PackageReference: K02C; Publisher: Altium Limited; PackageDescription: Metal Can TO-3, 2 Lead, Low Profile; RoHS: N; PinCount: 2; DigiKeyPartNumber: LM117HVK/883-ND; ComponentLink1Description: LM117HV Datasheet; ComponentLink1URL: http://www.national.com/ds/LM/LM117HV.pdf; ComponentLink2Description: LM117HV Web Page; ComponentLink2URL: http://www.national.com/pf/LM/LM117HV.html; ComponentLink3Description: K02C Package Page; ComponentLink3URL: http://www.national.com/packaging/folders/k02c.html
footprint K02C (Oval Flange Mount with (2) Offset Leads; Pin Spacing 10.92 mm; Lead Dia. 1.09 mm (max))
pins: 1 ADJ (in), 2 IN (power), 3 OUT (power)

## LM117K/883
designator U?
3-Terminal Adjustable Regulator; PartNumber: LM117K/883; Manufacturer: National Semiconductor; CompType: LDO IC; PackageTopMarking: NSZSSXXYYA*LM117K/883* Q; Published: 4-Dec-2008; DatasheetVersion: Apr-2007; PackageVersion: revE, Sep-1995; PackageReference: K02C; Publisher: Altium Limited; PackageDescription: Metal Can TO-3, 2 Lead, Low Profile; RoHS: N; PinCount: 2; ComponentLink1Description: LM117 Datasheet; ComponentLink1URL: http://www.national.com/ds/LM/LM117.pdf; ComponentLink2Description: LM117 Web Page; ComponentLink2URL: http://www.national.com/pf/LM/LM117.html; ComponentLink3Description: K02C Package Page; ComponentLink3URL: http://www.national.com/packaging/folders/k02c.html
footprint K02C (Oval Flange Mount with (2) Offset Leads; Pin Spacing 10.92 mm; Lead Dia. 1.09 mm (max))
pins: 1 ADJ (in), 2 IN (power), 3 OUT (power)

## LM117KRQMLV
designator U?
3-Terminal Adjustable Regulator; PartNumber: LM117KRQMLV; Manufacturer: National Semiconductor; CompType: LDO IC; PackageTopMarking: NSZSSXXYYA*R9951704VYA*LM117KRQV Q; Published: 4-Dec-2008; DatasheetVersion: Apr-2007; PackageVersion: revE, Sep-1995; PackageReference: K02C; Publisher: Altium Limited; PackageDescription: Metal Can TO-3, 2 Lead, Low Profile; RoHS: N; PinCount: 2; ComponentLink1Description: LM117 Datasheet; ComponentLink1URL: http://www.national.com/ds/LM/LM117.pdf; ComponentLink2Description: LM117 Web Page; ComponentLink2URL: http://www.national.com/pf/LM/LM117.html; ComponentLink3Description: K02C Package Page; ComponentLink3URL: http://www.national.com/packaging/folders/k02c.html
footprint K02C (Oval Flange Mount with (2) Offset Leads; Pin Spacing 10.92 mm; Lead Dia. 1.09 mm (max))
pins: 1 ADJ (in), 2 IN (power), 3 OUT (power)

## LM120H-5.0
designator U?
Series 3-Terminal Negative Regulators; PartNumber: LM120H-5.0; Manufacturer: National Semiconductor; CompType: LDO IC; PackageTopMarking: NSZXYTTE# LM120H-5.0P+; Published: 4-Dec-2008; DatasheetVersion: Nov-2007; PackageVersion: revD, Feb-1995; PackageReference: H03A; Publisher: Altium Limited; PackageDescription: Metal Can, TO-39, 3 Lead, .200in Dia, P.C.; RoHS: O; PinCount: 3; DigiKeyPartNumber: LM120H-5.0-ND; Code_JEDEC: TO-39; ComponentLink1Description: LM120 Datasheet; ComponentLink1URL: http://www.national.com/ds/LM/LM120.pdf; ComponentLink2Description: LM120 Web Page; ComponentLink2URL: http://www.national.com/pf/LM/LM120.html; ComponentLink3Description: H03A Package Page; ComponentLink3URL: http://www.national.com/packaging/folders/h03a.html
footprint H03A (Can; 3 Leads; Pin Circle Dia. 5.08 mm; Lead Dia. 0.48 mm (max))
pins: 1 GND (power), 2 OUT (power), 3 IN (power)

## LM120H-5.0/883
designator U?
Series 3-Terminal Negative Regulators; PartNumber: LM120H-5.0/883; Manufacturer: National Semiconductor; CompType: LDO IC; PackageTopMarking: NS ZSSXXYYA*LM120H-5.0/883 Q; Published: 4-Dec-2008; DatasheetVersion: Nov-2007; PackageVersion: revD, Feb-1995; PackageReference: H03A; Publisher: Altium Limited; PackageDescription: Metal Can, TO-39, 3 Lead, .200in Dia, P.C.; RoHS: N; PinCount: 3; Code_JEDEC: TO-39; ComponentLink1Description: LM120 Datasheet; ComponentLink1URL: http://www.national.com/ds/LM/LM120.pdf; ComponentLink2Description: LM120 Web Page; ComponentLink2URL: http://www.national.com/pf/LM/LM120.html; ComponentLink3Description: H03A Package Page; ComponentLink3URL: http://www.national.com/packaging/folders/h03a.html
footprint H03A (Can; 3 Leads; Pin Circle Dia. 5.08 mm; Lead Dia. 0.48 mm (max))
pins: 1 GND (power), 2 OUT (power), 3 IN (power)

## LM120H-12
designator U?
Series 3-Terminal Negative Regulators; PartNumber: LM120H-12; Manufacturer: National Semiconductor; CompType: LDO IC; PackageTopMarking: NSZXYTTE# LM120H-12P+; Published: 4-Dec-2008; DatasheetVersion: Nov-2007; PackageVersion: revD, Feb-1995; PackageReference: H03A; Publisher: Altium Limited; PackageDescription: Metal Can, TO-39, 3 Lead, .200in Dia, P.C.; RoHS: O; PinCount: 3; Code_JEDEC: TO-39; ComponentLink1Description: LM120 Datasheet; ComponentLink1URL: http://www.national.com/ds/LM/LM120.pdf; ComponentLink2Description: LM120 Web Page; ComponentLink2URL: http://www.national.com/pf/LM/LM120.html; ComponentLink3Description: H03A Package Page; ComponentLink3URL: http://www.national.com/packaging/folders/h03a.html
footprint H03A (Can; 3 Leads; Pin Circle Dia. 5.08 mm; Lead Dia. 0.48 mm (max))
pins: 1 GND (power), 2 OUT (power), 3 IN (power)

## LM120H-12/883
designator U?
Series 3-Terminal Negative Regulators; PartNumber: LM120H-12/883; Manufacturer: National Semiconductor; CompType: LDO IC; PackageTopMarking: NS ZSSXXYYA*LM120H-12/883 Q; Published: 4-Dec-2008; DatasheetVersion: Nov-2007; PackageVersion: revD, Feb-1995; PackageReference: H03A; Publisher: Altium Limited; PackageDescription: Metal Can, TO-39, 3 Lead, .200in Dia, P.C.; RoHS: N; PinCount: 3; Code_JEDEC: TO-39; ComponentLink1Description: LM120 Datasheet; ComponentLink1URL: http://www.national.com/ds/LM/LM120.pdf; ComponentLink2Description: LM120 Web Page; ComponentLink2URL: http://www.national.com/pf/LM/LM120.html; ComponentLink3Description: H03A Package Page; ComponentLink3URL: http://www.national.com/packaging/folders/h03a.html
footprint H03A (Can; 3 Leads; Pin Circle Dia. 5.08 mm; Lead Dia. 0.48 mm (max))
pins: 1 GND (power), 2 OUT (power), 3 IN (power)

## LM120H-15
designator U?
Series 3-Terminal Negative Regulators; PartNumber: LM120H-15; Manufacturer: National Semiconductor; CompType: LDO IC; PackageTopMarking: NSZXYTTE# LM120H-15P+; Published: 4-Dec-2008; DatasheetVersion: Nov-2007; PackageVersion: revD, Feb-1995; PackageReference: H03A; Publisher: Altium Limited; PackageDescription: Metal Can, TO-39, 3 Lead, .200in Dia, P.C.; RoHS: O; PinCount: 3; Code_JEDEC: TO-39; ComponentLink1Description: LM120 Datasheet; ComponentLink1URL: http://www.national.com/ds/LM/LM120.pdf; ComponentLink2Description: LM120 Web Page; ComponentLink2URL: http://www.national.com/pf/LM/LM120.html; ComponentLink3Description: H03A Package Page; ComponentLink3URL: http://www.national.com/packaging/folders/h03a.html
footprint H03A (Can; 3 Leads; Pin Circle Dia. 5.08 mm; Lead Dia. 0.48 mm (max))
pins: 1 GND (power), 2 OUT (power), 3 IN (power)

## LM120H-15/883
designator U?
Series 3-Terminal Negative Regulators; PartNumber: LM120H-15/883; Manufacturer: National Semiconductor; CompType: LDO IC; PackageTopMarking: NS ZSSXXYYA*LM120H-15/883 Q; Published: 4-Dec-2008; DatasheetVersion: Nov-2007; PackageVersion: revD, Feb-1995; PackageReference: H03A; Publisher: Altium Limited; PackageDescription: Metal Can, TO-39, 3 Lead, .200in Dia, P.C.; RoHS: N; PinCount: 3; Code_JEDEC: TO-39; ComponentLink1Description: LM120 Datasheet; ComponentLink1URL: http://www.national.com/ds/LM/LM120.pdf; ComponentLink2Description: LM120 Web Page; ComponentLink2URL: http://www.national.com/pf/LM/LM120.html; ComponentLink3Description: H03A Package Page; ComponentLink3URL: http://www.national.com/packaging/folders/h03a.html
footprint H03A (Can; 3 Leads; Pin Circle Dia. 5.08 mm; Lead Dia. 0.48 mm (max))
pins: 1 GND (power), 2 OUT (power), 3 IN (power)

## LM120K-12/883
designator U?
Series 3-Terminal Negative Regulators; PartNumber: LM120K-12/883; Manufacturer: National Semiconductor; CompType: LDO IC; PackageTopMarking: NS ZSSXXYYA*LM120K-12*/883 Q; Published: 4-Dec-2008; DatasheetVersion: Nov-2007; PackageVersion: revE, Sep-1995; PackageReference: K02C; Publisher: Altium Limited; PackageDescription: Metal Can TO-3, 2 Lead, Low Profile; RoHS: N; PinCount: 2; ComponentLink1Description: LM120 Datasheet; ComponentLink1URL: http://www.national.com/ds/LM/LM120.pdf; ComponentLink2Description: LM120 Web Page; ComponentLink2URL: http://www.national.com/pf/LM/LM120.html; ComponentLink3Description: K02C Package Page; ComponentLink3URL: http://www.national.com/packaging/folders/k02c.html
footprint K02C (Oval Flange Mount with (2) Offset Leads; Pin Spacing 10.92 mm; Lead Dia. 1.09 mm (max))
pins: 1 GND (power), 2 OUT (power), 3 IN (power)